# Altium schematic symbol library Crystals & Oscillators.SchLib: 3 symbols
Pins are listed as number, name and electrical type; pins without a type are passive.

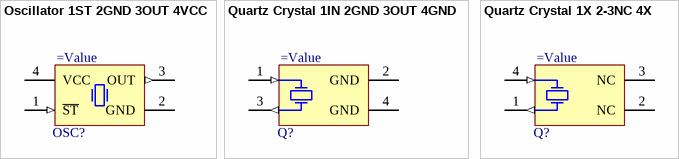
[diagram p0: symbols Oscillator 1ST 2GND 3OUT 4VCC to Quartz Crystal 1X 2-3NC 4X]

## Oscillator 1ST 2GND 3OUT 4VCC
designator OSC?
Oscillator 4 pins 1=\ST 2=GND 3=OUT 4=VCC
pins: 1 ~{ST} (in), 2 GND (power), 3 OUT (out), 4 VCC (power)

## Quartz Crystal 1IN 2GND 3OUT 4GND
designator Q?
Crystal 4 pins 1=XTAL Control 2=GND3=XTAL 4=GND
pins: 1 X (in), 2 GND (power), 3 X (out), 4 GND (power)

## Quartz Crystal 1X 2-3NC 4X
designator Q?
Crystal 4 pins 1=XTAL Control 2 And 3=NC 4=XTAL
pins: 1 X (out), 2 NC (power), 3 NC (power), 4 X (in)